# Altium footprint library MSOP8.PcbLib: 1 footprints
Each footprint in its own frame and in the unit in brackets; x right, y up, seen from the top. Pads: shape width x height; smd on the part's side, far side on the other; paste and mask are expansions set on the pad; w line width, h text height; cw(c..) or ccw(c..) is an arc to the next point about the centre after c.
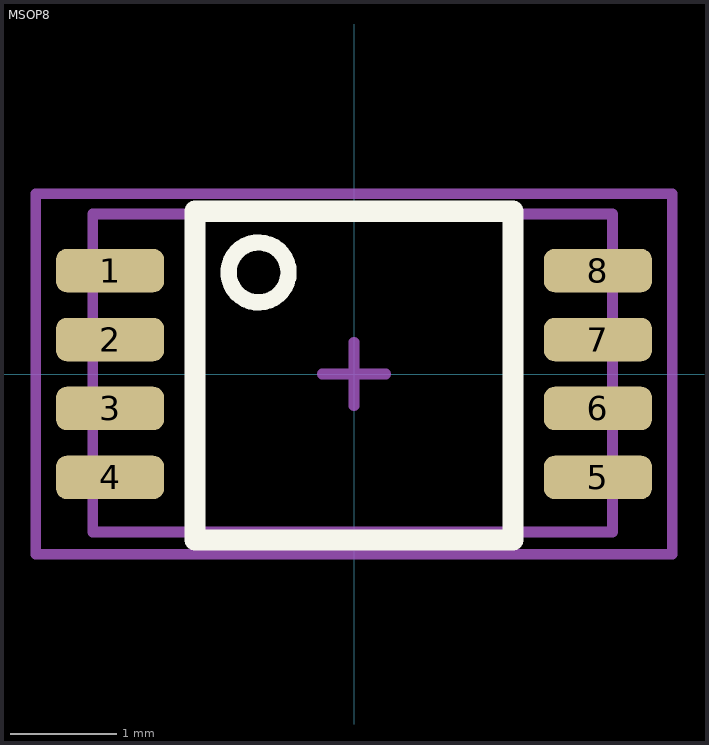
[diagram p0: the footprint, top view; thin cyan lines are the x and y axes]

## MSOP8 [mm]
pads (8):
  rrect50% 1.02x0.41 smd: 1(-2.3,0.975) 2(-2.3,0.325) 3(-2.3,-0.325) 4(-2.3,-0.975) 5(2.3,-0.975) 6(2.3,-0.325) 7(2.3,0.325) 8(2.3,0.975)
Top Overlay:
  circle w0.154: c-0.9,0.958 r0.283
  lines w0.2: -1.5,-1.565 1.5,-1.565 1.5,1.535 -1.5,1.535 -1.5,-1.565
Mechanical 1:
  text ".Designator" at -1.1,-0.5 h1
Mechanical 13:
  lines w0.102: -2.464,-1.49 2.436,-1.49 2.436,1.51 -2.464,1.51 -2.464,-1.49
Mechanical 15:
  lines w0.102: -0.3,0 0.3,0 ; 0,-0.3 0,0.3 ; -3,-1.7 3,-1.7 3,1.7 -3,1.7 -3,-1.7
3D body: height 1.15, standoff 0, extent -2.464,-1.49 2.436,1.51